# EAGLE library part EH_B7B-EH (library CASE-JST)
JST EH Connector, through hole, 7 pin, top entry Description: JST EH connector with 2.5 mm pitch, through hole version, 7 pin, top entry. Links: Datasheet <http://www.jst-mfg.com/product/pdf/eng/eEH.pdf>
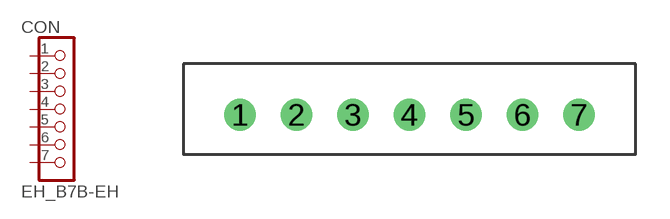
[diagram p17: symbol with the pads of B7B-EH; footprint B7B-EH]

Designator prefix CON

## EH_B7B-EH  [B7B-EH]
1  1  pas
2  2  pas
3  3  pas
4  4  pas
5  5  pas
6  6  pas
7  7  pas

## Footprint B7B-EH (pad centres in mm)
JST B7B-EH Datasheet <http://www.jst-mfg.com/product/pdf/eng/eEH.pdf>
drill 0.9: 1 -7.5,0; 2 -5,0; 3 -2.5,0; 4 0,0; 5 2.5,0; 6 5,0; 7 7.5,0